# EAGLE library part JS202011SCQN (library Badge_v202004081200_Eagle_Library_regex)
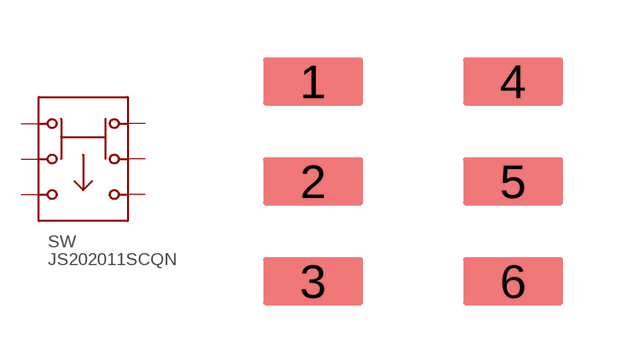
[diagram p7: symbol with the pads of JS202011SCQN; footprint JS202011SCQN]

Designator prefix SW

## JS202011SCQN (DATASHEET: https://dznh3ojzb2azq.cloudfront.net/products/Slide/JS/documents/datasheet.pdf; MANUFACTURER: C&K; VALUE: JS202011SCQN)  [JS202011SCQN]
1  1  nc
2  2  pas
3  3  pas
4  4  nc
5  5  pas
6  6  pas

## Footprint JS202011SCQN (pad centres in mm)
smd 2.5 x 1.2: 1 -2.5,2.5; 2 -2.5,0; 3 -2.5,-2.5; 4 2.5,2.5; 5 2.5,0; 6 2.5,-2.5